# EAGLE library part TCB0108-LVL-XLTR (library 6502-shield)
Texas Instruments TXB0108 8-Bit Bidirectional Voltage-Level Translator with Auto-Direction Sensing and +/- 15-kV ESD Protection Datasheet: http://www.ti.com/lit/ds/symlink/txb0108.pdf Mouser: https://www.mouser.com/ProductDetail/Texas-Instruments/TXB0108PWR?qs=sGAEpiMZZMupTq4AYuRvQKKOVTxKvBsp
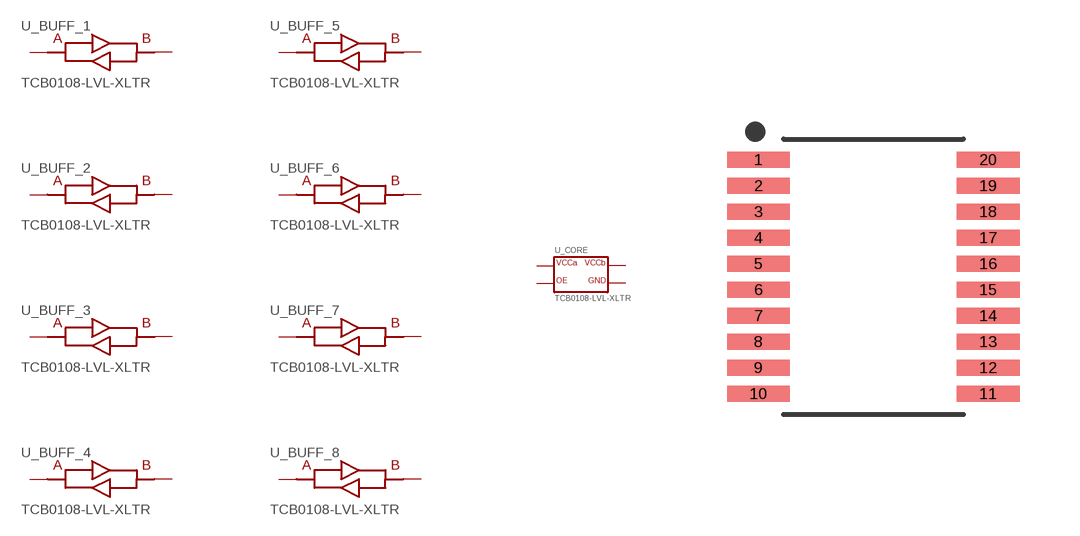
[diagram p10: symbol with the pads of SOP65P640X120-20N; footprint SOP65P640X120-20N]

Designator prefix U; gates _BUFF_1=LEVEL_XLTR_AUTO _BUFF_2=LEVEL_XLTR_AUTO _BUFF_3=LEVEL_XLTR_AUTO _BUFF_4=LEVEL_XLTR_AUTO _BUFF_5=LEVEL_XLTR_AUTO _BUFF_6=LEVEL_XLTR_AUTO _BUFF_7=LEVEL_XLTR_AUTO _BUFF_8=LEVEL_XLTR_AUTO _CORE=LEVEL_XLTR_AUTO_PWR

## TCB0108-LVL-XLTRTSSOP20  [SOP65P640X120-20N]
1  _BUFF_1:A
2  _CORE:VCC_A
3  _BUFF_2:A
4  _BUFF_3:A
5  _BUFF_4:A
6  _BUFF_5:A
7  _BUFF_6:A
8  _BUFF_7:A
9  _BUFF_8:A
10  _CORE:OE
11  _CORE:GND
12  _BUFF_8:B
13  _BUFF_7:B
14  _BUFF_6:B
15  _BUFF_5:B
16  _BUFF_4:B
17  _BUFF_3:B
18  _BUFF_2:B
19  _CORE:VCC_B
20  _BUFF_1:B

## Footprint SOP65P640X120-20N (pad centres in mm)
20-SOP, 0.65 mm pitch, 6.40 mm span, 6.50 X 4.40 X 1.20 mm body 20-pin SOP package with 0.65 mm pitch, 6.40 mm span with body size 6.50 X 4.40 X 1.20 mm
smd 1.572 x 0.407: 1 -2.872,2.925; 2 -2.872,2.275; 3 -2.872,1.625; 4 -2.872,0.975; 5 -2.872,0.325; 6 -2.872,-0.325; 7 -2.872,-0.975; 8 -2.872,-1.625; 9 -2.872,-2.275; 10 -2.872,-2.925; 11 2.872,-2.925; 12 2.872,-2.275; 13 2.872,-1.625; 14 2.872,-0.975; 15 2.872,-0.325; 16 2.872,0.325; 17 2.872,0.975; 18 2.872,1.625; 19 2.872,2.275; 20 2.872,2.925